# EAGLE library part AT42QT1010 (library MAÑE)
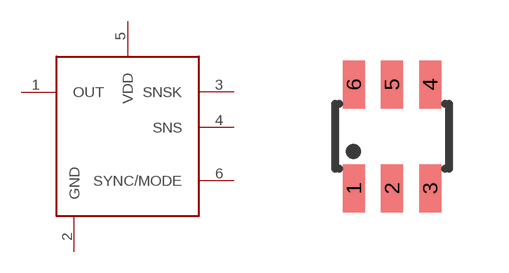
[diagram p22: symbol with the pads of SOT23-6; footprint SOT23-6]

Designator prefix -

## AT42QT1010  [SOT23-6]
1  OUT
2  GND
3  SNSK
4  SNS
5  VDD
6  SYNC/MODE

## Footprint SOT23-6 (pad centres in mm)
smd 0.55 x 1.2: 1 -0.955,-1.3; 2 0,-1.3; 3 0.955,-1.3; 4 0.955,1.3; 5 0,1.3; 6 -0.955,1.3